# Altium integrated library zasilacz.IntLib: 1 symbol
Pins are listed as number, name and electrical type; pins without a type are passive.

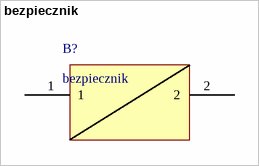
[diagram p0: symbol bezpiecznik]

## bezpiecznik
designator B?
footprint bezpiecznik
footprint Axial 0.6
pins: 1, 2